# Altium schematic symbol library SCH - DRIVER - ULN2803.SCHLIB: 1 symbol
Pins are listed as number, name and electrical type; pins without a type are passive.

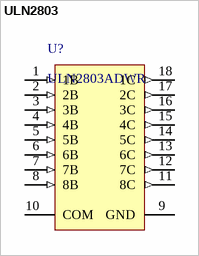
[diagram p0: symbol ULN2803]

## ULN2803
designator U?, comment ULN2803ADWR
Darlington Transistor Array, -40 to 85 degC, 18-Pin SOIC (DW), Green (RoHS & no Sb/Br), Tape and Reel
footprint DW0018A_N (SOIC, 18-Leads, Body 11.8x7.6mm, Pitch 1.27mm, IPC Medium Density)
footprint DW0018A_L (SOIC, 18-Leads, Body 11.8x7.6mm, Pitch 1.27mm, IPC High Density)
footprint DW0018A_M (SOIC, 18-Leads, Body 11.8x7.6mm, Pitch 1.27mm, IPC Low Density)
pins: 1 1B (in) "Channel 1 through 7 darlington base input", 2 2B (in) "Channel 1 through 7 darlington base input", 3 3B (in) "Channel 1 through 7 darlington base input", 4 4B (in) "Channel 1 through 7 darlington base input", 5 5B (in) "Channel 1 through 7 darlington base input", 6 6B (in) "Channel 1 through 7 darlington base input", 7 7B (in) "Channel 1 through 7 darlington base input", 8 8B (in) "Channel 1 through 7 darlington base input", 9 GND (power) "Common Emmitter shared by all channels (typically tied to ground)", 10 COM "Common cathode node for flyback diodes (required for inductive loads)", 11 8C (out) "Channel 1 through 7 darlington collector output", 12 7C (out) "Channel 1 through 7 darlington collector output", 13 6C (out) "Channel 1 through 7 darlington collector output", 14 5C (out) "Channel 1 through 7 darlington collector output", 15 4C (out) "Channel 1 through 7 darlington collector output", 16 3C (out) "Channel 1 through 7 darlington collector output", 17 2C (out) "Channel 1 through 7 darlington collector output", 18 1C (out) "Channel 1 through 7 darlington collector output"